# EAGLE library part CON-FTSH-105-01-L-DV-K (library PowerBoard)
FTSH Header Samtec FTSH series 2 x 5 pin SMT micro header Source: http://www.samtec.com/ftppub/pdf/ftsh_mt.pdf
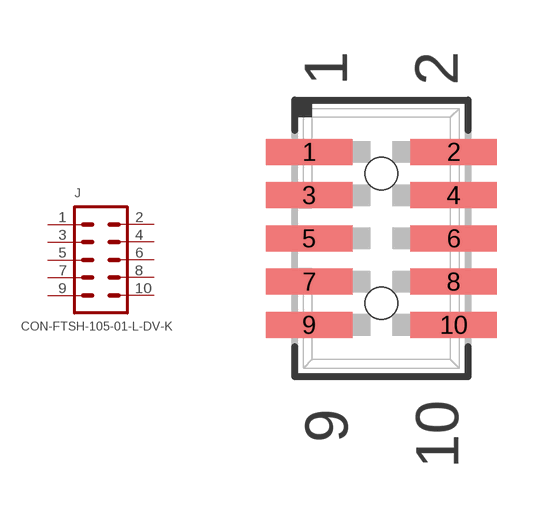
[diagram p5: symbol with the pads of FTSH-105-01-L-DV-K; footprint FTSH-105-01-L-DV-K]

Designator prefix J

## CON-FTSH-105-01-L-DV-K (DIGI-KEY#: FTSH-105-01-L-DV-K-ND; MF: Samtec; MPN: FTSH-105-01-L-DV-K)  [FTSH-105-01-L-DV-K]
1  1  pas
2  2  pas
3  3  pas
4  4  pas
5  5  pas
6  6  pas
7  7  pas
8  8  pas
9  9  pas
10  10  pas

## Footprint FTSH-105-01-L-DV-K (pad centres in mm)
CONNECTOR HEADER Samtec FTSH-105-01-L-DV-K
smd 2.54 x 0.762: 1 -2.121,2.54; 2 2.121,2.54; 3 -2.121,1.27; 4 2.121,1.27; 5 -2.121,0; 6 2.121,0; 7 -2.121,-1.27; 8 2.121,-1.27; 9 -2.121,-2.54; 10 2.121,-2.54
hole 0.94 at 0,1.905
hole 0.94 at 0,-1.905